# Altium footprint library PQFN50P500X500X90_HS-29N.PcbLib: 1 footprints
Each footprint in its own frame and in the unit in brackets; x right, y up, seen from the top. Pads: shape width x height; smd on the part's side, far side on the other; paste and mask are expansions set on the pad; w line width, h text height; cw(c..) or ccw(c..) is an arc to the next point about the centre after c.
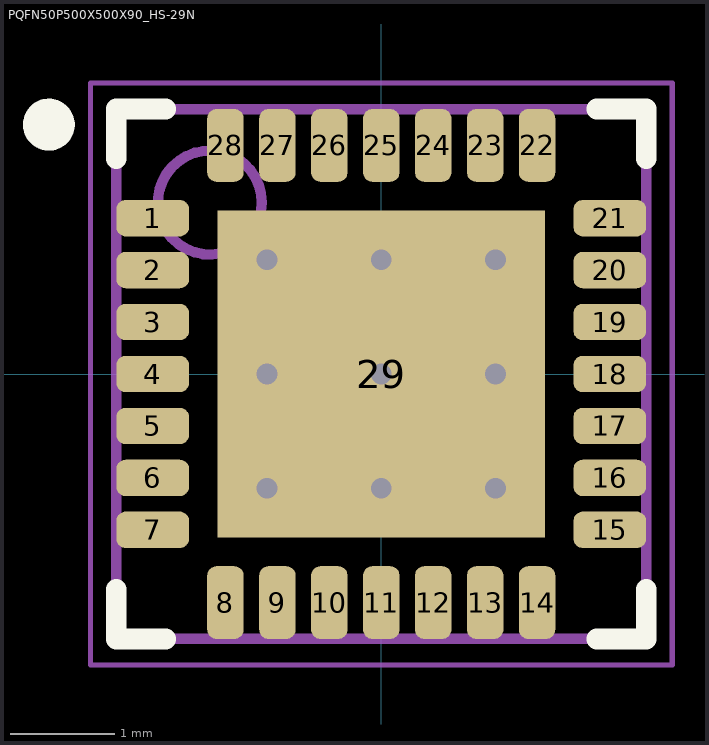
[diagram p0: the footprint, top view; thin cyan lines are the x and y axes]

## PQFN50P500X500X90_HS-29N [mm] "PQFN, 28-Leads, Body 5,00x5,00mm, Pitch 0,50mm, Thermal Pad 3,15x3,15mm, IPC Medium Density"
height 0.9
pads (29):
  rrect50% 0.7x0.35 smd: 1(-2.2,1.5) 2(-2.2,1) 3(-2.2,0.5) 4(-2.2,0) 5(-2.2,-0.5) 6(-2.2,-1) 7(-2.2,-1.5) 15(2.2,-1.5) 16(2.2,-1) 17(2.2,-0.5) 18(2.2,0) 19(2.2,0.5) 20(2.2,1) 21(2.2,1.5)
  rrect50% 0.35x0.7 smd: 8(-1.5,-2.2) 9(-1,-2.2) 10(-0.5,-2.2) 11(0,-2.2) 12(0.5,-2.2) 13(1,-2.2) 14(1.5,-2.2) 22(1.5,2.2) 23(1,2.2) 24(0.5,2.2) 25(0,2.2) 26(-0.5,2.2) 27(-1,2.2) 28(-1.5,2.2)
  rect 3.15x3.15 smd: 29(0,0)
via -1.1,1.1 diameter 0.5 hole 0.2
via 0,1.1 diameter 0.5 hole 0.2
via 1.1,1.1 diameter 0.5 hole 0.2
via -1.1,0 diameter 0.5 hole 0.2
via 0,0 diameter 0.5 hole 0.2
via 1.1,0 diameter 0.5 hole 0.2
via -1.1,-1.1 diameter 0.5 hole 0.2
via 0,-1.1 diameter 0.5 hole 0.2
via 1.1,-1.1 diameter 0.5 hole 0.2
Top Overlay:
  circle w0.25: c-3.2,2.4 r0.125
  lines w0.2: -2.55,-2.075 -2.55,-2.55 -2.075,-2.55 ; -2.55,2.075 -2.55,2.55 -2.075,2.55 ; 2.075,-2.55 2.55,-2.55 2.55,-2.075 ; 2.075,2.55 2.55,2.55 2.55,2.075
Mechanical 13:
  circle w0.1: c-1.65,1.65 r0.5
  lines w0.1: -2.55,-2.55 -2.55,2.55 2.55,2.55 2.55,-2.55 -2.55,-2.55
Mechanical 15:
  lines w0.05: -0.5,0 0.5,0 ; 0,-0.5 0,0.5 ; -2.8,-2.8 -2.8,2.8 2.8,2.8 2.8,-2.8 -2.8,-2.8
3D body "PQFN50P500X500X90_HS-29N.step": height 0.9, standoff 0, extent -2.55,-2.55 2.55,2.55